# Altium footprint library LED.PCBLIB: 78 footprints (part 2 of 5)
Each footprint in its own frame and in the unit in brackets; x right, y up, seen from the top. Pads: shape width x height; smd on the part's side, far side on the other; paste and mask are expansions set on the pad; w line width, h text height; cw(c..) or ccw(c..) is an arc to the next point about the centre after c.
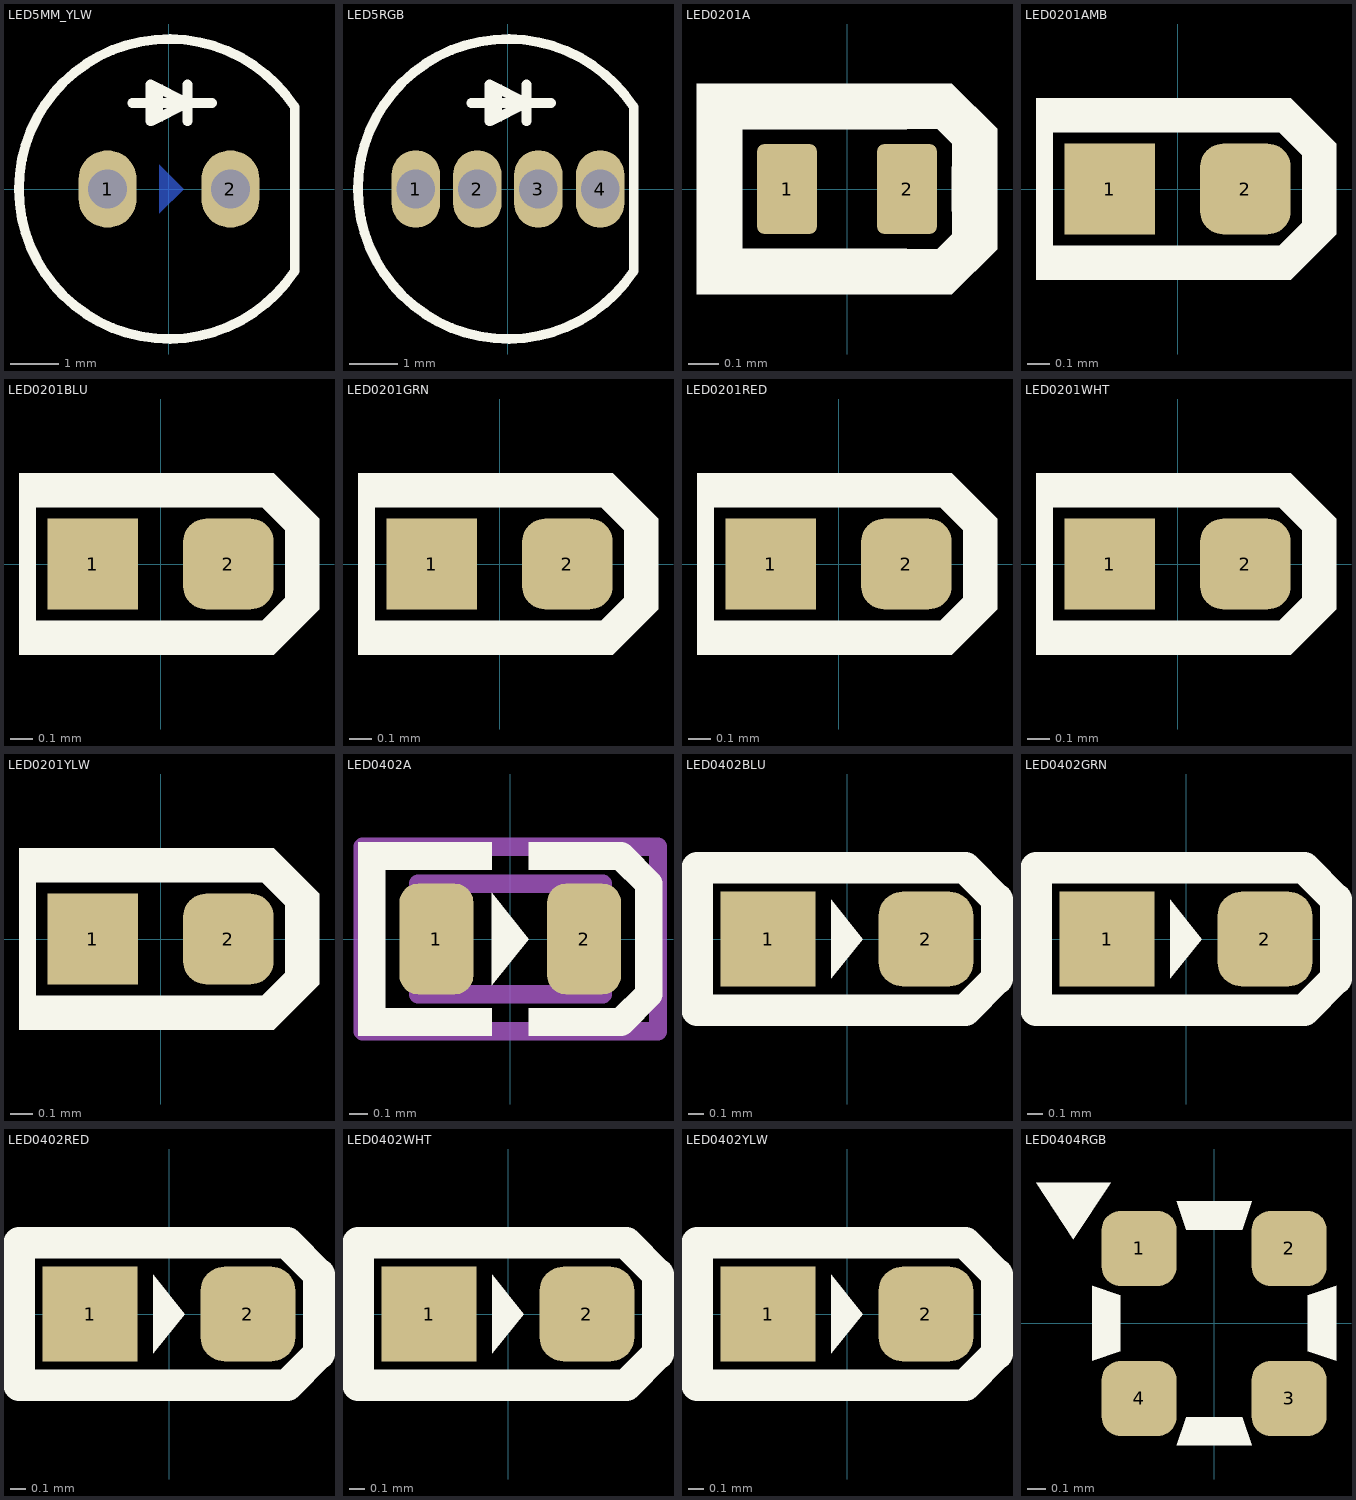
[diagram p1: the footprints below, top view; thin cyan lines are the x and y axes]

## LED5MM_YLW [mm] "LED THD 5MM YELLOW"
pads (2):
  oval 1.2x1.6 hole 0.8: 1(-1.27,0) 2(1.27,0)
BottomLayer:
  region: -0.2,0.5 -0.2,-0.5 0.3,0
TopOverlay:
  rectangle: -0.381,1.397 -0.127,2.159
  lines w0.2: -0.762,1.778 0.889,1.778 ; 0.381,1.397 0.381,2.159 ; 2.6,-1.7 2.6,1.7 ; 2.6,-1.688 cw(c0,0) 2.6,1.688 ; -0.381,1.397 -0.381,2.159 0.381,1.778 -0.381,1.397
3D body "LED-D5Y.step": height 9.14, standoff -6.3, extent -3,-3 2.5,3

## LED5RGB [mm] "LED THD 5MM RGB"
pads (4):
  oval 1x1.6 hole 0.8 mask+0.1: 1(-1.905,0) 2(-0.635,0) 3(0.627,0) 4(1.905,0)
TopOverlay:
  rectangle: -0.381,1.397 -0.127,2.159
  lines w0.2: -0.762,1.778 0.889,1.778 ; 0.381,1.397 0.381,2.159 ; 2.6,-1.7 2.6,1.7 ; 2.6,-1.688 cw(c0,0) 2.6,1.688 ; -0.381,1.397 0.381,1.778 -0.381,2.159 -0.381,1.397
3D body "User Library-LED RGB.step": height 9.6, standoff -5, extent -2.827,-2.95 2.627,2.95

## LED0201A [mm] "LED SMD 0201, for PCBA"
pads (2):
  rrect25% 0.2x0.3 smd paste-0.02 mask+0.05: 1(-0.2,0) 2(0.2,0)
TopOverlay:
  region: -0.35,-0.35 -0.35,0.35 -0.5,0.35 -0.5,-0.35
  region: -0.5,0.2 0.2,0.2 0.2,0.35 -0.5,0.35
  region: 0.5,0 0.5,-0.2 0.35,-0.35 0.2,-0.35 0.2,-0.2 0.3,-0.2 0.35,-0.15 0.35,0
  region: -0.5,-0.2 0.2,-0.2 0.2,-0.35 -0.5,-0.35
  region: 0.5,0 0.5,0.2 0.35,0.35 0.2,0.35 0.2,0.2 0.3,0.2 0.35,0.15 0.35,0
3D body: height 0.3, standoff 0.14, extent -0.125,-0.125 0.125,0.125
3D body: height 0.3, standoff 0.14, extent -0.325,-0.175 0.325,0.175
3D body: height 0.04, standoff 0, extent -0.3,-0.15 -0.125,0.15
3D body: height 0.14, standoff 0.04, extent -0.325,-0.175 0.325,0.175
3D body: height 0.04, standoff 0, extent 0.125,-0.15 0.3,0.15
3D body: height 0.04, standoff 0.03, extent -0.05,-0.125 0.05,0.125

## LED0201AMB [mm] "LED SMD 0201, AMBER"
pads (2):
  rect 0.4x0.4 smd paste-1 mask+0.05: 1(-0.3,0)
  rrect50% 0.4x0.4 smd paste-1 mask+0.05: 2(0.3,0)
TopOverlay:
  region: -0.625,-0.25 0.45,-0.25 0.45,-0.4 -0.625,-0.4
  region: 0.7,0 0.7,-0.2 0.5,-0.4 0.4,-0.4 0.4,-0.25 0.45,-0.25 0.55,-0.15 0.55,0
  region: -0.55,0 -0.625,0 -0.625,-0.4 -0.55,-0.4
  region: -0.55,0 -0.625,0 -0.625,0.4 -0.55,0.4
  region: 0.7,0 0.7,0.2 0.5,0.4 0.4,0.4 0.4,0.25 0.45,0.25 0.55,0.15 0.55,0
  region: -0.625,0.25 0.45,0.25 0.45,0.4 -0.625,0.4
TopPaste:
  region: 0.15,0 0.15,-0.025 0.15,-0.055 0.173,-0.11 0.215,-0.152 0.27,-0.175 0.3,-0.175 0.45,-0.175 0.45,0.175 0.325,0.175 0.29,0.175 0.226,0.148 0.177,0.099 0.15,0.035
  region: -0.15,0 -0.15,-0.025 -0.15,-0.055 -0.173,-0.11 -0.215,-0.152 -0.27,-0.175 -0.3,-0.175 -0.45,-0.175 -0.45,0.175 -0.325,0.175 -0.29,0.175 -0.226,0.148 -0.177,0.099 -0.15,0.035
3D body: height 0.04, standoff 0.03, extent -0.05,-0.125 0.05,0.125
3D body: height 0.04, standoff 0, extent 0.125,-0.15 0.3,0.15
3D body: height 0.14, standoff 0.04, extent -0.325,-0.175 0.325,0.175
3D body: height 0.04, standoff 0, extent -0.3,-0.15 -0.125,0.15
3D body: height 0.3, standoff 0.14, extent -0.325,-0.175 0.325,0.175
3D body: height 0.3, standoff 0.14, extent -0.125,-0.125 0.125,0.125

## LED0201BLU [mm] "LED SMD 0201, BLUE"
pads (2):
  rect 0.4x0.4 smd paste-1 mask+0.05: 1(-0.3,0)
  rrect50% 0.4x0.4 smd paste-1 mask+0.05: 2(0.3,0)
TopOverlay:
  region: -0.625,-0.25 0.45,-0.25 0.45,-0.4 -0.625,-0.4
  region: 0.7,0 0.7,-0.2 0.5,-0.4 0.4,-0.4 0.4,-0.25 0.45,-0.25 0.55,-0.15 0.55,0
  region: -0.55,0 -0.625,0 -0.625,-0.4 -0.55,-0.4
  region: -0.55,0 -0.625,0 -0.625,0.4 -0.55,0.4
  region: 0.7,0 0.7,0.2 0.5,0.4 0.4,0.4 0.4,0.25 0.45,0.25 0.55,0.15 0.55,0
  region: -0.625,0.25 0.45,0.25 0.45,0.4 -0.625,0.4
TopPaste:
  region: 0.15,0 0.15,-0.025 0.15,-0.055 0.173,-0.11 0.215,-0.152 0.27,-0.175 0.3,-0.175 0.45,-0.175 0.45,0.175 0.325,0.175 0.29,0.175 0.226,0.148 0.177,0.099 0.15,0.035
  region: -0.15,0 -0.15,-0.025 -0.15,-0.055 -0.173,-0.11 -0.215,-0.152 -0.27,-0.175 -0.3,-0.175 -0.45,-0.175 -0.45,0.175 -0.325,0.175 -0.29,0.175 -0.226,0.148 -0.177,0.099 -0.15,0.035
3D body: height 0.04, standoff 0.03, extent -0.05,-0.125 0.05,0.125
3D body: height 0.04, standoff 0, extent 0.125,-0.15 0.3,0.15
3D body: height 0.14, standoff 0.04, extent -0.325,-0.175 0.325,0.175
3D body: height 0.04, standoff 0, extent -0.3,-0.15 -0.125,0.15
3D body: height 0.3, standoff 0.14, extent -0.325,-0.175 0.325,0.175
3D body: height 0.3, standoff 0.14, extent -0.213,-0.125 0.212,0.125

## LED0201GRN [mm] "LED SMD 0201, GREEN"
pads (2):
  rect 0.4x0.4 smd paste-1 mask+0.05: 1(-0.3,0)
  rrect50% 0.4x0.4 smd paste-1 mask+0.05: 2(0.3,0)
TopOverlay:
  region: -0.625,0.25 0.45,0.25 0.45,0.4 -0.625,0.4
  region: 0.7,0 0.7,0.2 0.5,0.4 0.4,0.4 0.4,0.25 0.45,0.25 0.55,0.15 0.55,0
  region: -0.55,0 -0.625,0 -0.625,0.4 -0.55,0.4
  region: -0.55,0 -0.625,0 -0.625,-0.4 -0.55,-0.4
  region: 0.7,0 0.7,-0.2 0.5,-0.4 0.4,-0.4 0.4,-0.25 0.45,-0.25 0.55,-0.15 0.55,0
  region: -0.625,-0.25 0.45,-0.25 0.45,-0.4 -0.625,-0.4
TopPaste:
  region: 0.15,0 0.15,-0.025 0.15,-0.055 0.173,-0.11 0.215,-0.152 0.27,-0.175 0.3,-0.175 0.45,-0.175 0.45,0.175 0.325,0.175 0.29,0.175 0.226,0.148 0.177,0.099 0.15,0.035
  region: -0.15,0 -0.15,-0.025 -0.15,-0.055 -0.173,-0.11 -0.215,-0.152 -0.27,-0.175 -0.3,-0.175 -0.45,-0.175 -0.45,0.175 -0.325,0.175 -0.29,0.175 -0.226,0.148 -0.177,0.099 -0.15,0.035
3D body: height 0.3, standoff 0.14, extent -0.213,-0.125 0.212,0.125
3D body: height 0.3, standoff 0.14, extent -0.325,-0.175 0.325,0.175
3D body: height 0.04, standoff 0, extent -0.3,-0.15 -0.125,0.15
3D body: height 0.14, standoff 0.04, extent -0.325,-0.175 0.325,0.175
3D body: height 0.04, standoff 0, extent 0.125,-0.15 0.3,0.15
3D body: height 0.04, standoff 0.03, extent -0.05,-0.125 0.05,0.125

## LED0201RED [mm] "LED SMD 0201, RED"
pads (2):
  rect 0.4x0.4 smd paste-1 mask+0.05: 1(-0.3,0)
  rrect50% 0.4x0.4 smd paste-1 mask+0.05: 2(0.3,0)
TopOverlay:
  region: -0.625,0.25 0.45,0.25 0.45,0.4 -0.625,0.4
  region: 0.7,0 0.7,0.2 0.5,0.4 0.4,0.4 0.4,0.25 0.45,0.25 0.55,0.15 0.55,0
  region: -0.55,0 -0.625,0 -0.625,0.4 -0.55,0.4
  region: -0.55,0 -0.625,0 -0.625,-0.4 -0.55,-0.4
  region: 0.7,0 0.7,-0.2 0.5,-0.4 0.4,-0.4 0.4,-0.25 0.45,-0.25 0.55,-0.15 0.55,0
  region: -0.625,-0.25 0.45,-0.25 0.45,-0.4 -0.625,-0.4
TopPaste:
  region: 0.15,0 0.15,-0.025 0.15,-0.055 0.173,-0.11 0.215,-0.152 0.27,-0.175 0.3,-0.175 0.45,-0.175 0.45,0.175 0.325,0.175 0.29,0.175 0.226,0.148 0.177,0.099 0.15,0.035
  region: -0.15,0 -0.15,-0.025 -0.15,-0.055 -0.173,-0.11 -0.215,-0.152 -0.27,-0.175 -0.3,-0.175 -0.45,-0.175 -0.45,0.175 -0.325,0.175 -0.29,0.175 -0.226,0.148 -0.177,0.099 -0.15,0.035
3D body: height 0.3, standoff 0.14, extent -0.213,-0.125 0.212,0.125
3D body: height 0.3, standoff 0.14, extent -0.325,-0.175 0.325,0.175
3D body: height 0.04, standoff 0, extent -0.3,-0.15 -0.125,0.15
3D body: height 0.14, standoff 0.04, extent -0.325,-0.175 0.325,0.175
3D body: height 0.04, standoff 0, extent 0.125,-0.15 0.3,0.15
3D body: height 0.04, standoff 0.03, extent -0.05,-0.125 0.05,0.125

## LED0201WHT [mm] "LED SMD 0201, WHITE"
pads (2):
  rect 0.4x0.4 smd paste-1 mask+0.05: 1(-0.3,0)
  rrect50% 0.4x0.4 smd paste-1 mask+0.05: 2(0.3,0)
TopOverlay:
  region: -0.625,-0.25 0.45,-0.25 0.45,-0.4 -0.625,-0.4
  region: 0.7,0 0.7,-0.2 0.5,-0.4 0.4,-0.4 0.4,-0.25 0.45,-0.25 0.55,-0.15 0.55,0
  region: -0.55,0 -0.625,0 -0.625,-0.4 -0.55,-0.4
  region: -0.55,0 -0.625,0 -0.625,0.4 -0.55,0.4
  region: 0.7,0 0.7,0.2 0.5,0.4 0.4,0.4 0.4,0.25 0.45,0.25 0.55,0.15 0.55,0
  region: -0.625,0.25 0.45,0.25 0.45,0.4 -0.625,0.4
TopPaste:
  region: -0.15,0 -0.15,-0.025 -0.15,-0.055 -0.173,-0.11 -0.215,-0.152 -0.27,-0.175 -0.3,-0.175 -0.45,-0.175 -0.45,0.175 -0.325,0.175 -0.29,0.175 -0.226,0.148 -0.177,0.099 -0.15,0.035
  region: 0.15,0 0.15,-0.025 0.15,-0.055 0.173,-0.11 0.215,-0.152 0.27,-0.175 0.3,-0.175 0.45,-0.175 0.45,0.175 0.325,0.175 0.29,0.175 0.226,0.148 0.177,0.099 0.15,0.035
3D body: height 0.04, standoff 0.03, extent -0.05,-0.125 0.05,0.125
3D body: height 0.04, standoff 0, extent 0.125,-0.15 0.3,0.15
3D body: height 0.14, standoff 0.04, extent -0.325,-0.175 0.325,0.175
3D body: height 0.04, standoff 0, extent -0.3,-0.15 -0.125,0.15
3D body: height 0.3, standoff 0.14, extent -0.325,-0.175 0.325,0.175
3D body: height 0.3, standoff 0.14, extent -0.125,-0.125 0.125,0.125

## LED0201YLW [mm] "LED SMD 0201, YELLOW"
pads (2):
  rect 0.4x0.4 smd paste-1 mask+0.05: 1(-0.3,0)
  rrect50% 0.4x0.4 smd paste-1 mask+0.05: 2(0.3,0)
TopOverlay:
  region: -0.625,-0.25 0.45,-0.25 0.45,-0.4 -0.625,-0.4
  region: 0.7,0 0.7,-0.2 0.5,-0.4 0.4,-0.4 0.4,-0.25 0.45,-0.25 0.55,-0.15 0.55,0
  region: -0.55,0 -0.625,0 -0.625,-0.4 -0.55,-0.4
  region: -0.55,0 -0.625,0 -0.625,0.4 -0.55,0.4
  region: 0.7,0 0.7,0.2 0.5,0.4 0.4,0.4 0.4,0.25 0.45,0.25 0.55,0.15 0.55,0
  region: -0.625,0.25 0.45,0.25 0.45,0.4 -0.625,0.4
TopPaste:
  region: -0.15,0 -0.15,-0.025 -0.15,-0.055 -0.173,-0.11 -0.215,-0.152 -0.27,-0.175 -0.3,-0.175 -0.45,-0.175 -0.45,0.175 -0.325,0.175 -0.29,0.175 -0.226,0.148 -0.177,0.099 -0.15,0.035
  region: 0.15,0 0.15,-0.025 0.15,-0.055 0.173,-0.11 0.215,-0.152 0.27,-0.175 0.3,-0.175 0.45,-0.175 0.45,0.175 0.325,0.175 0.29,0.175 0.226,0.148 0.177,0.099 0.15,0.035
3D body: height 0.04, standoff 0.03, extent -0.05,-0.125 0.05,0.125
3D body: height 0.04, standoff 0, extent 0.125,-0.15 0.3,0.15
3D body: height 0.14, standoff 0.04, extent -0.325,-0.175 0.325,0.175
3D body: height 0.04, standoff 0, extent -0.3,-0.15 -0.125,0.15
3D body: height 0.3, standoff 0.14, extent -0.325,-0.175 0.325,0.175
3D body: height 0.3, standoff 0.14, extent -0.125,-0.125 0.125,0.125

## LED0402A [mm] "LED SMD 0402, GREEN"
pads (2):
  rrect50% 0.4x0.6 smd mask+0.075: 1(-0.4,0) 2(0.4,0)
TopOverlay:
  region: 0.1,-0.375 0.1,-0.525 0.6,-0.525 0.6,-0.375
  region: -0.1,-0.375 -0.1,-0.525 -0.825,-0.525 -0.825,-0.375
  region: -0.1,0.375 -0.1,0.525 -0.825,0.525 -0.825,0.375
  region: 0.1,0.375 0.1,0.525 0.6,0.525 0.6,0.375
  region: -0.1,0.25 -0.1,-0.25 0.1,0
  lines w0.15: -0.75,-0.45 -0.75,0.45 ; 0.6,-0.45 0.75,-0.3 0.75,0.3 0.6,0.45
Mechanical13:
  lines w0.1: -0.5,-0.3 -0.5,0.3 0.5,0.3 0.5,-0.3 -0.5,-0.3
Mechanical15:
  lines w0.1: -0.8,-0.5 0.8,-0.5 0.8,0.5 -0.8,0.5 -0.8,-0.5
3D body "led_0402G.step": height 0.45, standoff 0, extent -0.505,-0.25 0.505,0.25

## LED0402BLU [mm] "LED SMD 0402, BLUE"
pads (2):
  rect 0.6x0.6 smd paste-2 mask+0.075: 1(-0.5,0)
  rrect50% 0.6x0.6 smd paste-2 mask+0.075: 2(0.5,0)
TopOverlay:
  region: -0.1,0.25 -0.1,-0.25 0.1,0
  lines w0.2: -0.95,-0.45 -0.95,0.45 0.75,0.45 0.95,0.25 0.95,-0.25 0.75,-0.45 -0.95,-0.45
TopPaste:
  region: 0.3,0 0.3,-0.05 0.338,-0.142 0.408,-0.212 0.5,-0.25 0.55,-0.25 0.7,-0.25 0.7,0.25 0.55,0.25 0.5,0.25 0.408,0.212 0.338,0.142 0.3,0.05
  region: -0.3,0 -0.3,-0.05 -0.338,-0.142 -0.408,-0.212 -0.5,-0.25 -0.55,-0.25 -0.7,-0.25 -0.7,0.25 -0.55,0.25 -0.5,0.25 -0.408,0.212 -0.338,0.142 -0.3,0.05
3D body "led_0402B.step": height 0.45, standoff 0, extent -0.505,-0.25 0.505,0.25

## LED0402GRN [mm] "LED SMD 0402, GREEN"
pads (2):
  rect 0.6x0.6 smd paste-2 mask+0.075: 1(-0.5,0)
  rrect50% 0.6x0.6 smd paste-2 mask+0.075: 2(0.5,0)
TopOverlay:
  region: -0.1,0.25 -0.1,-0.25 0.1,0
  lines w0.2: -0.95,-0.45 0.75,-0.45 0.95,-0.25 0.95,0.25 0.75,0.45 -0.95,0.45 -0.95,-0.45
TopPaste:
  region: -0.3,0 -0.3,-0.05 -0.338,-0.142 -0.408,-0.212 -0.5,-0.25 -0.55,-0.25 -0.7,-0.25 -0.7,0.25 -0.55,0.25 -0.5,0.25 -0.408,0.212 -0.338,0.142 -0.3,0.05
  region: 0.3,0 0.3,-0.05 0.338,-0.142 0.408,-0.212 0.5,-0.25 0.55,-0.25 0.7,-0.25 0.7,0.25 0.55,0.25 0.5,0.25 0.408,0.212 0.338,0.142 0.3,0.05
3D body "led_0402G.step": height 0.45, standoff 0, extent -0.505,-0.25 0.505,0.25

## LED0402RED [mm] "LED SMD 0402, RED"
pads (2):
  rect 0.6x0.6 smd paste-2 mask+0.075: 1(-0.5,0)
  rrect50% 0.6x0.6 smd paste-2 mask+0.075: 2(0.5,0)
TopOverlay:
  region: -0.1,0.25 -0.1,-0.25 0.1,0
  lines w0.2: -0.95,-0.45 -0.95,0.45 0.75,0.45 0.95,0.25 0.95,-0.25 0.75,-0.45 -0.95,-0.45
TopPaste:
  region: -0.3,0 -0.3,-0.05 -0.338,-0.142 -0.408,-0.212 -0.5,-0.25 -0.55,-0.25 -0.7,-0.25 -0.7,0.25 -0.55,0.25 -0.5,0.25 -0.408,0.212 -0.338,0.142 -0.3,0.05
  region: 0.3,0 0.3,-0.05 0.338,-0.142 0.408,-0.212 0.5,-0.25 0.55,-0.25 0.7,-0.25 0.7,0.25 0.55,0.25 0.5,0.25 0.408,0.212 0.338,0.142 0.3,0.05
3D body "led_0402R.step": height 0.45, standoff 0, extent -0.505,-0.25 0.505,0.25

## LED0402WHT [mm] "LED SMD 0402, WHITE"
pads (2):
  rect 0.6x0.6 smd paste-2 mask+0.075: 1(-0.5,0)
  rrect50% 0.6x0.6 smd paste-2 mask+0.075: 2(0.5,0)
TopOverlay:
  region: -0.1,0.25 -0.1,-0.25 0.1,0
  lines w0.2: -0.95,-0.45 -0.95,0.45 0.75,0.45 0.95,0.25 0.95,-0.25 0.75,-0.45 -0.95,-0.45
TopPaste:
  region: -0.3,0 -0.3,-0.05 -0.338,-0.142 -0.408,-0.212 -0.5,-0.25 -0.55,-0.25 -0.7,-0.25 -0.7,0.25 -0.55,0.25 -0.5,0.25 -0.408,0.212 -0.338,0.142 -0.3,0.05
  region: 0.3,0 0.3,-0.05 0.338,-0.142 0.408,-0.212 0.5,-0.25 0.55,-0.25 0.7,-0.25 0.7,0.25 0.55,0.25 0.5,0.25 0.408,0.212 0.338,0.142 0.3,0.05
3D body "LED_1006_W.STEP": height 0.2, standoff 0, extent -0.5,-0.3 0.5,0.3

## LED0402YLW [mm] "LED SMD 0402, YELLOW"
pads (2):
  rect 0.6x0.6 smd paste-2 mask+0.075: 1(-0.5,0)
  rrect50% 0.6x0.6 smd paste-2 mask+0.075: 2(0.5,0)
TopOverlay:
  region: -0.1,0.25 -0.1,-0.25 0.1,0
  lines w0.2: -0.95,-0.45 -0.95,0.45 0.75,0.45 0.95,0.25 0.95,-0.25 0.75,-0.45 -0.95,-0.45
TopPaste:
  region: 0.3,0 0.3,-0.05 0.338,-0.142 0.408,-0.212 0.5,-0.25 0.55,-0.25 0.7,-0.25 0.7,0.25 0.55,0.25 0.5,0.25 0.408,0.212 0.338,0.142 0.3,0.05
  region: -0.3,0 -0.3,-0.05 -0.338,-0.142 -0.408,-0.212 -0.5,-0.25 -0.55,-0.25 -0.7,-0.25 -0.7,0.25 -0.55,0.25 -0.5,0.25 -0.408,0.212 -0.338,0.142 -0.3,0.05
3D body "led_0402Y.step": height 0.45, standoff 0, extent -0.505,-0.25 0.505,0.25

## LED0404RGB [mm] "LED, RGB, 1.0x1.0mm, SML-LX0404, 1010, 0404"
height 0.9
pads (4):
  rrect50% 0.4x0.4 smd mask+0.05: 1(-0.4,0.4) 2(0.4,0.4) 3(0.4,-0.4) 4(-0.4,-0.4)
TopOverlay:
  region: 0.15,-0.5 -0.15,-0.5 -0.2,-0.65 0.2,-0.65
  region: 0.5,0.15 0.5,-0.15 0.65,-0.2 0.65,0.2
  region: -0.15,0.5 0.15,0.5 0.2,0.65 -0.2,0.65
  region: -0.5,-0.15 -0.5,0.15 -0.65,0.2 -0.65,-0.2
  region: -0.95,0.75 -0.55,0.75 -0.75,0.45
3D body: height 0.65, standoff 0.3, extent -0.5,-0.5 0.5,0.5
3D body: height 0.05, standoff 0, extent 0.15,0.15 0.5,0.499
3D body: height 0.05, standoff 0, extent 0.15,-0.5 0.5,-0.15
3D body: height 0.05, standoff 0, extent -0.5,-0.5 -0.15,-0.15
3D body: height 0.05, standoff 0, extent -0.5,0.15 -0.15,0.5
3D body: height 0.3, standoff 0.05, extent -0.5,-0.5 0.5,0.5
3D body: height 0.35, standoff 0.3, extent -0.5,-0.5 0.5,0.5
3D body: height 0.4, standoff 0.35, extent -0.1,-0.1 0.1,0.1
3D body: height 0.4, standoff 0.35, extent -0.4,-0.1 -0.2,0.1
3D body: height 0.4, standoff 0.35, extent 0.2,-0.1 0.4,0.1